# Altium footprint library LED.PcbLib: 4 footprints
Each footprint in its own frame and in the unit in brackets; x right, y up, seen from the top. Pads: shape width x height; smd on the part's side, far side on the other; paste and mask are expansions set on the pad; w line width, h text height; cw(c..) or ccw(c..) is an arc to the next point about the centre after c.
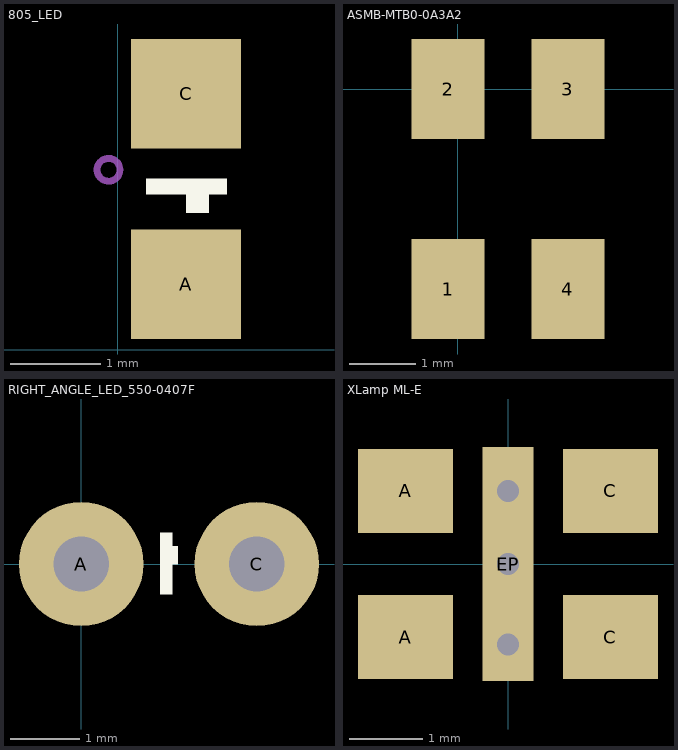
[diagram p0: the footprints below, top view; thin cyan lines are the x and y axes]

## 805_LED [mil] "SMD 805 LED"
pads (2):
  rect 48x48 smd: A(30,28.66) C(30,112)
Top Overlay:
  rectangle: 12.5,68 48,75
  region: 30,60 40,60 40,70 30,70
Mechanical 16:
  circle w3: c-3.94,78.74 r5
3D body "LED-0805.step": height 31.89, standoff -0.39, extent 4.92,30.51 54.13,109.25

## ASMB-MTB0-0A3A2 [mm] "RBG LED"
pads (4):
  rect 1.1x1.5 smd: 1(-0.15,-3) 2(-0.15,0) 3(1.65,0) 4(1.65,-3)
3D body "ASMB-MTB0-0A3A2.stp": height 1.9, standoff 0, extent -0.65,-3.15 2.15,0.35

## RIGHT_ANGLE_LED_550-0407F [mm] "Right angle led to go though panel (DIALIGHT  550-0407F)"
pads (2):
  round 1.8 hole 0.8: A(0,0) C(2.54,0)
Top Overlay:
  region: 1.321,-0.445 1.321,0.457 1.143,0.457 1.143,-0.445
  region: 1.397,0 1.397,0.254 1.143,0.254 1.143,0
3D body "5500407F.stp": height 5.97, standoff -3.68, extent -1.778,-8.611 4.191,3.785

## XLamp ML-E [mm] "CREE LED"
pads (5):
  rect 1.3x1.15 smd: A(-1.4,-1) A(-1.4,1) C(1.4,-1) C(1.4,1)
  rect 0.7x3.2 smd: EP(0,0)
via 0,1 diameter 0.6 hole 0.3
via 0,0 diameter 0.6 hole 0.3
via 0,-1.1 diameter 0.6 hole 0.3
3D body "XLamp ML-E.stp": height 1.18, standoff -0.02, extent -1.72,-1.756 1.73,1.744